# EAGLE library part 7SG-AMUL (library chuong)
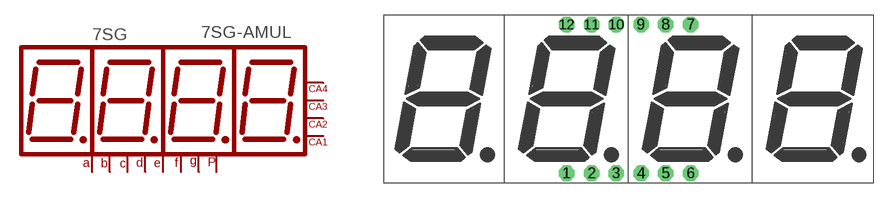
[diagram p50: symbol with the pads of 7SG-AMUL; footprint 7SG-AMUL]

Designator prefix 7SG

## 7SG-AMUL  [7SG-AMUL]
1  E  pas
2  D  pas
3  DP  pas
4  C  pas
5  G  pas
6  CA1  pas
7  B  pas
8  CA2  pas
9  CA3  pas
10  F  pas
11  A  pas
12  CA4  pas

## Footprint 7SG-AMUL (pad centres in mm)
drill 0.61 pad 1.6 octagon: 1 12.7,-7.62; 2 15.24,-7.62; 3 17.78,-7.62; 4 20.32,-7.62; 5 22.86,-7.62; 6 25.4,-7.62; 7 25.4,7.62; 8 22.86,7.62; 9 20.32,7.62; 10 17.78,7.62; 11 15.24,7.62; 12 12.7,7.62